# Altium footprint library BMAP_2pin_terminal.PcbLib: 1 footprints
Each footprint in its own frame and in the unit in brackets; x right, y up, seen from the top. Pads: shape width x height; smd on the part's side, far side on the other; paste and mask are expansions set on the pad; w line width, h text height; cw(c..) or ccw(c..) is an arc to the next point about the centre after c.
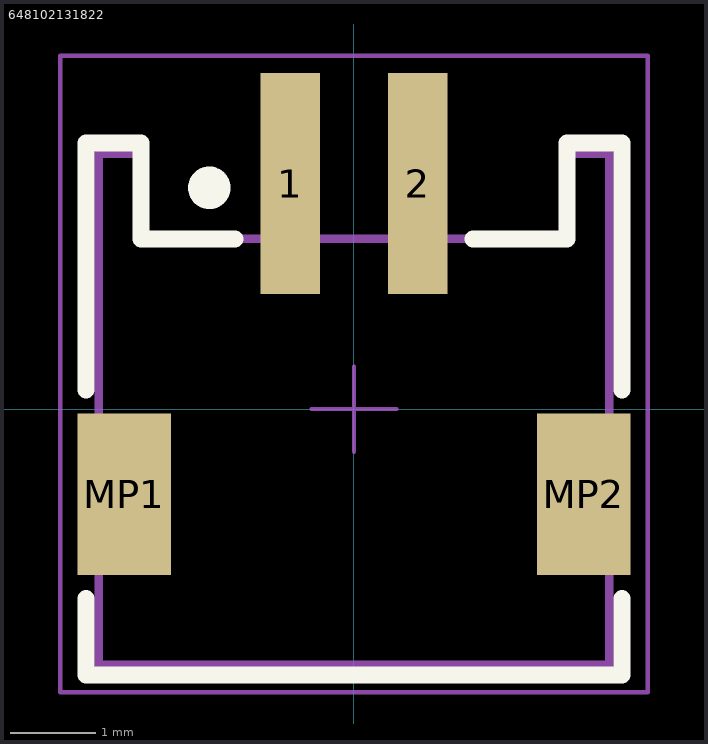
[diagram p0: the footprint, top view; thin cyan lines are the x and y axes]

## 648102131822 [mm] "1.50mm SMT Male Horizontal Shrouded Header, 2p"
height 3.7
pads (4):
  rect 0.7x2.6 smd: 1(-0.75,2.65) 2(0.75,2.65)
  rect 1.1x1.9 smd: MP1(-2.7,-1) MP2(2.7,-1)
Top Overlay:
  circle w0.25: c-1.7,2.6 r0.125
  lines w0.2: -3.15,-2.225 -3.15,-3.125 3.15,-3.125 3.15,-2.225 ; -3.15,0.225 -3.15,3.125 -2.5,3.125 -2.5,2 -1.4,2 ; 1.4,2 2.5,2 2.5,3.125 3.15,3.125 3.15,0.225
Mechanical 13:
  lines w0.1: -3,-3 3,-3 3,3 2.5,3 2.5,2 -2.5,2 -2.5,3 -3,3 -3,-3
Mechanical 15:
  lines w0.05: -0.5,0 0.5,0 ; 0,-0.5 0,0.5 ; -3.45,-3.325 3.45,-3.325 3.45,4.15 -3.45,4.15 -3.45,-3.325
3D body "648102131822.stp": height 3.74, standoff -0.01, extent -3.105,-3 3.105,3.47